# Altium footprint library TXB010X.PcbLib: 2 footprints
Each footprint in its own frame and in the unit in brackets; x right, y up, seen from the top. Pads: shape width x height; smd on the part's side, far side on the other; paste and mask are expansions set on the pad; w line width, h text height; cw(c..) or ccw(c..) is an arc to the next point about the centre after c.
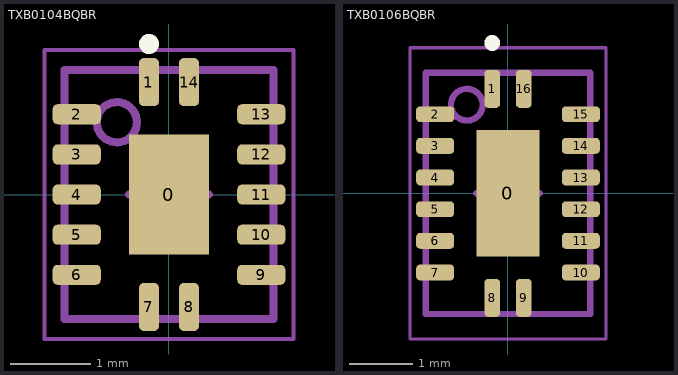
[diagram p0: the footprints below, top view; thin cyan lines are the x and y axes]

## TXB0104BQBR [mm] "PQFN, 14-Leads, Body 2.50x3.00mm, Pitch 0.50mm, Thermal Pad 1.00x1.50mm, IPC Medium Density"
height 0.8
pads (15):
  rect 1x1.5 smd paste-0.218: 0(0,0)
  rrect50% 0.25x0.6 smd: 1(-0.25,1.4) 7(-0.25,-1.4) 8(0.25,-1.4) 14(0.25,1.4)
  rrect50% 0.6x0.25 smd: 2(-1.15,1) 3(-1.15,0.5) 4(-1.15,0) 5(-1.15,-0.5) 6(-1.15,-1) 9(1.15,-1) 10(1.15,-0.5) 11(1.15,0) 12(1.15,0.5) 13(1.15,1)
Top Overlay:
  circle w0.125: c-0.25,1.875 r0.062
Top Assembly:
  circle w0.1: c-0.65,0.9 r0.25
  lines w0.1: -1.3,-1.55 1.3,-1.55 1.3,1.55 -1.3,1.55 -1.3,-1.55
Top Courtyard:
  lines w0.05: -1.55,-1.8 1.55,-1.8 1.55,1.8 -1.55,1.8 -1.55,-1.8
Top Component Center:
  lines w0.1: -0.5,0 0.5,0 ; 0,-0.5 0,0.5
3D body: height 0.8, standoff 0.05, extent -1.25,-1.5 1.25,1.5

## TXB0106BQBR [mm] "PQFN, 16-Leads, Body 2.50x3.75mm, Pitch 0.50mm, Thermal Pad 1.00x2.00mm, IPC Medium Density"
height 0.8
pads (17):
  rect 1x2 smd paste-0.238: 0(0,0)
  rrect50% 0.25x0.6 smd: 1(-0.25,1.65) 8(-0.25,-1.65) 9(0.25,-1.65) 16(0.25,1.65)
  rrect50% 0.6x0.25 smd: 2(-1.15,1.25) 3(-1.15,0.75) 4(-1.15,0.25) 5(-1.15,-0.25) 6(-1.15,-0.75) 7(-1.15,-1.25) 10(1.15,-1.25) 11(1.15,-0.75) 12(1.15,-0.25) 13(1.15,0.25) 14(1.15,0.75) 15(1.15,1.25)
Top Overlay:
  circle w0.125: c-0.25,2.375 r0.062
Top Assembly:
  circle w0.1: c-0.65,1.4 r0.25
  lines w0.1: -1.3,-1.905 -1.3,1.905 1.3,1.905 1.3,-1.905 -1.3,-1.905
Top Courtyard:
  lines w0.05: -1.55,-2.3 -1.55,2.3 1.55,2.3 1.55,-2.3 -1.55,-2.3
Top Component Center:
  lines w0.1: -0.5,0 0.5,0 ; 0,-0.5 0,0.5
3D body: height 0.8, standoff 0.05, extent -1.25,-1.875 1.25,1.875